# EAGLE library part TLP250(F) (library TLP250(F))
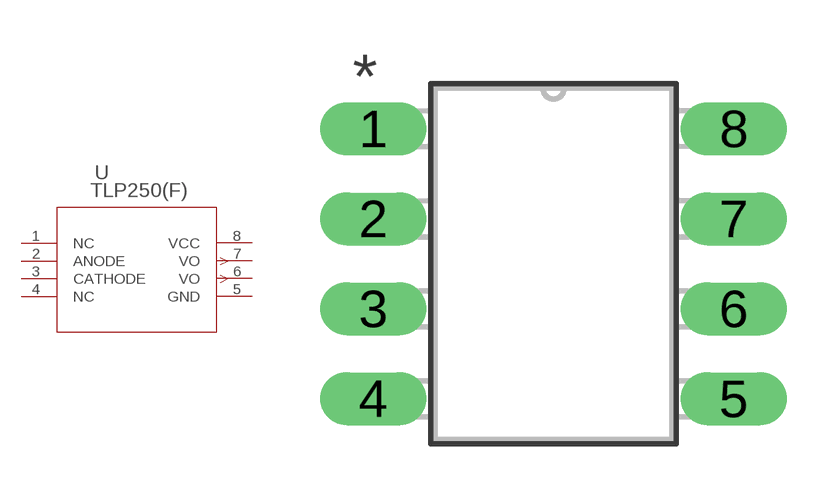
[diagram p0: symbol with the pads of 11-10C402_TOS; footprint 11-10C402_TOS]

Designator prefix U

## TLP250(F) (BUILT_BY: EMA_UL_Team; MANUFACTURER_PART_NUMBER: TLP250(F); SOURCELIBRARY: Toshiba_2011-11-10; VENDOR: Toshiba)  [11-10C402_TOS]
1  NC  nc
2  ANODE  pas
3  CATHODE  pas
4  NC  nc
5  GND  pwr
6  VO  out
7  VO  out
8  VCC  pwr

## Footprint 11-10C402_TOS (pad centres in mm)
drill 0.991 pad 1.499 long: 1 0,0; 2 0,-2.54; 3 0,-5.08; 4 0,-7.62; 5 10.16,-7.62; 6 10.16,-5.08; 7 10.16,-2.54; 8 10.16,0